# EAGLE library part 503182-1852 (library newUstar)
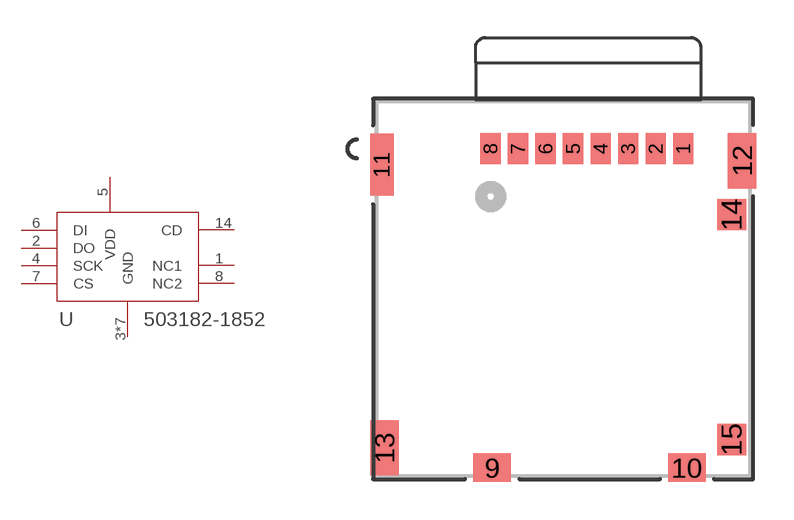
[diagram p0: symbol with the pads of 503182-1852_MOL; footprint 503182-1852_MOL]

Designator prefix U

## 503182-1852 (DIGIKEY: WM12834CT; MOLEX_PN: 503182-1852)  [503182-1852_MOL]
1  NC1
2  DO
3  GND  pas
4  SCK  pas
5  VDD  pwr
6  DI
7  CS  pas
8  NC2
9  GND  pas
10  GND  pas
11  GND  pas
12  GND  pas
13  GND  pas
14  CD
15  GND  pas

## Footprint 503182-1852_MOL (pad centres in mm)
smd 0.813 x 1.245: 1 5.315,4.668; 2 4.215,4.668; 3 3.115,4.668; 4 2.015,4.668; 5 0.915,4.668; 6 -0.185,4.668; 7 -1.285,4.668; 8 -2.385,4.668
smd 1.499 x 1.143: 9 -2.325,-8.087; 10 5.455,-8.087
smd 0.94 x 2.489: 11 -6.73,4.038
smd 1.143 x 2.21: 12 7.66,4.188; 13 -6.63,-7.292
smd 1.168 x 1.245: 14 7.255,2.038; 15 7.255,-6.962